# Altium footprint library 0906-4-15-20-75-14-11-0.PcbLib: 1 footprints
Each footprint in its own frame and in the unit in brackets; x right, y up, seen from the top. Pads: shape width x height; smd on the part's side, far side on the other; paste and mask are expansions set on the pad; w line width, h text height; cw(c..) or ccw(c..) is an arc to the next point about the centre after c.
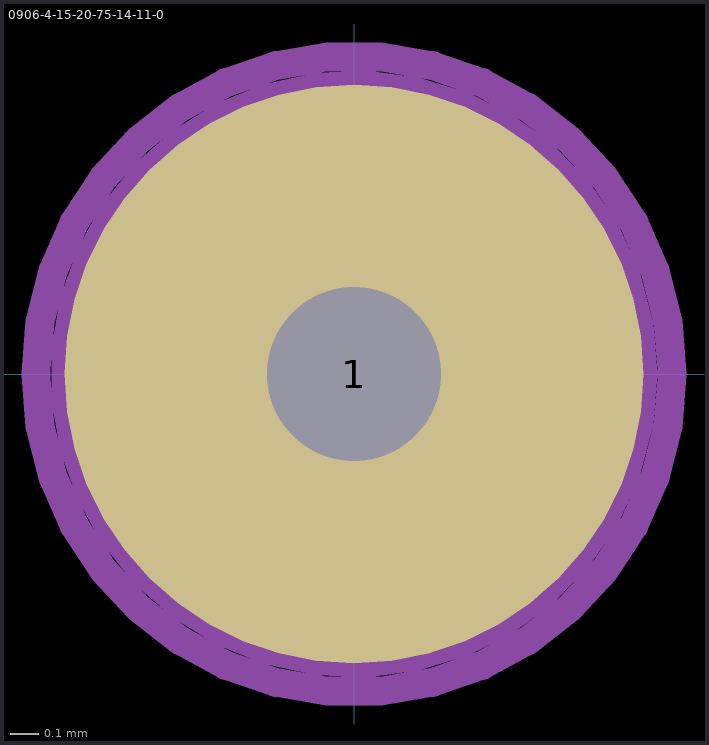
[diagram p0: the footprint, top view; thin cyan lines are the x and y axes]

## 0906-4-15-20-75-14-11-0 [mm]
pads (1):
  round 2 hole 0.6 mask+0.05: 1(0,0)
Top Assembly:
  circle w0.1: c0,0 r1
Top Courtyard:
  circle w0.1: c0,0 r1.1
3D body "mill-max-0906-4-15-20-75-14-11-0.step": height 6, standoff -1.75, extent -0.914,-0.914 0.915,0.915